# Altium schematic symbol library MMBTA42LT1G.Schlib: 1 symbol
Pins are listed as number, name and electrical type; pins without a type are passive.

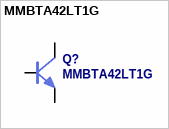
[diagram p0: symbol MMBTA42LT1G]

## MMBTA42LT1G
designator Q?
pins: 1 B, 2 E, 3 C